# EAGLE library part B8P-VH (library con-jst)
VH Connector - 0.156"
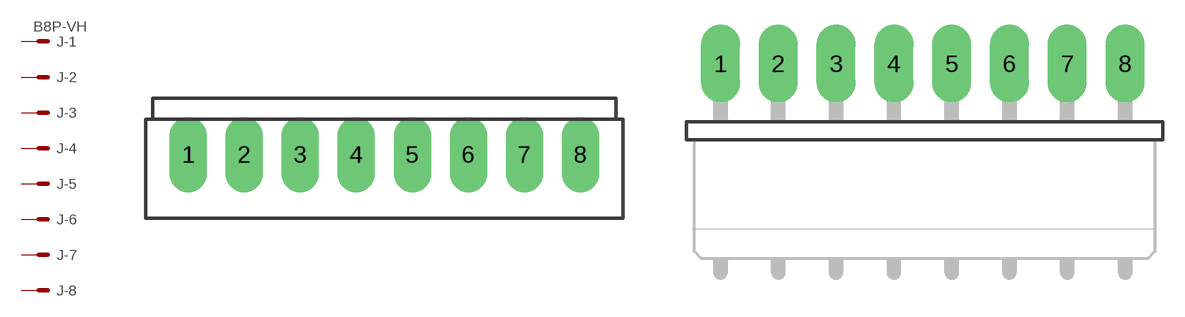
[diagram p43: symbol with the pads of B8P; footprints B8P, B8PS]

Designator prefix J; gates -1=KV -2=K -3=K -4=K -5=K -6=K -7=K -8=K

## B8P-VH  [B8P]
1  -1:S  pas
2  -2:S  pas
3  -3:S  pas
4  -4:S  pas
5  -5:S  pas
6  -6:S  pas
7  -7:S  pas
8  -8:S  pas

## B8P-VHS  [B8PS]
Pads as for B8P

## Footprint B8P (pad centres in mm)
VH Series - 0.156" Pitch
drill 1.778 long: 1 -13.868,0; 2 -9.906,0; 3 -5.944,0; 4 -1.981,0; 5 1.981,0; 6 5.944,0; 7 9.906,0; 8 13.868,0

## Footprint B8PS (pad centres in mm)
VH Series - 0.156" Pitch - right angle
drill 1.778 long: 1 -13.868,0; 2 -9.906,0; 3 -5.944,0; 4 -1.981,0; 5 1.981,0; 6 5.944,0; 7 9.906,0; 8 13.868,0